# Altium footprint library WSN1.PcbLib: 45 footprints (part 3 of 3)
Each footprint in its own frame and in the unit in brackets; x right, y up, seen from the top. Pads: shape width x height; smd on the part's side, far side on the other; paste and mask are expansions set on the pad; w line width, h text height; cw(c..) or ccw(c..) is an arc to the next point about the centre after c.
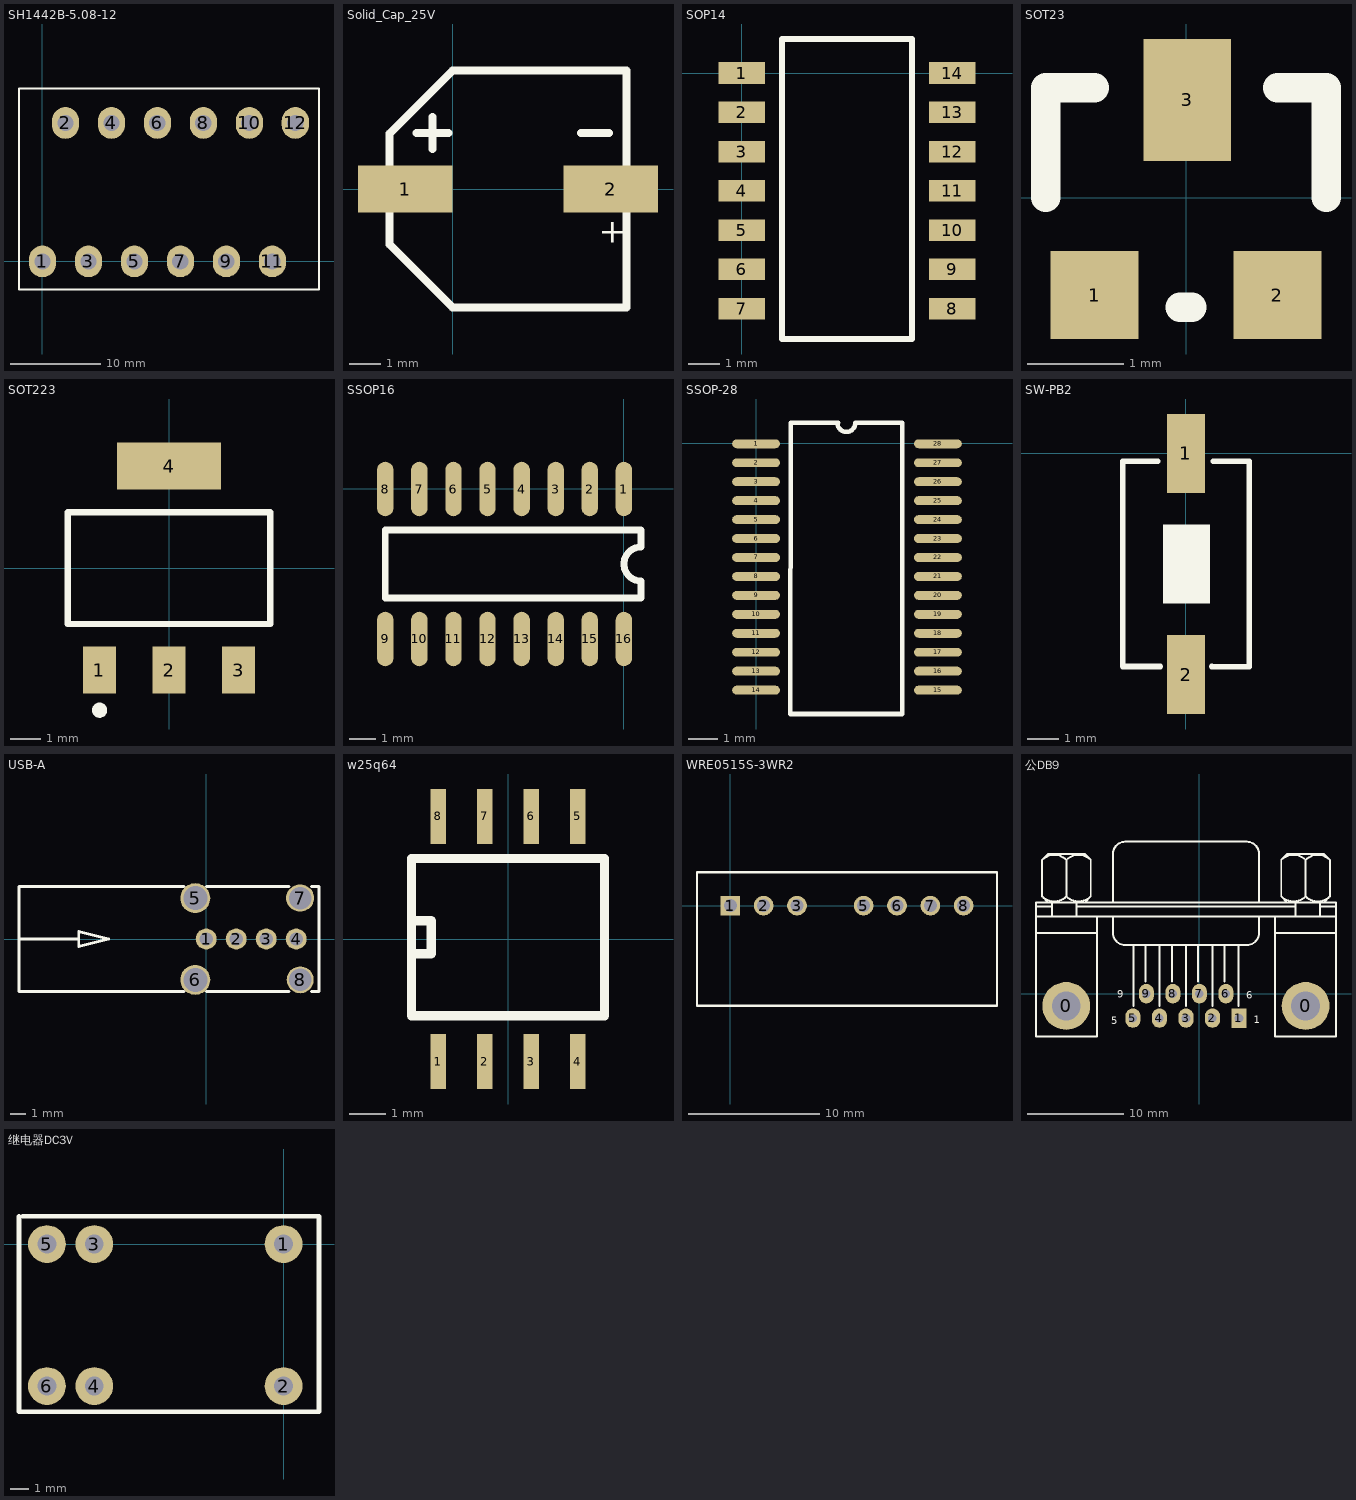
[diagram p2: the footprints below, top view; thin cyan lines are the x and y axes]

## SH1442B-5.08-12 [mm]
pads (12):
  oval 3x3.5 hole 1.8: 1(0,0) 2(2.54,15.3) 3(5.08,0) 4(7.62,15.3) 5(10.16,0) 6(12.7,15.3) 7(15.24,0) 8(17.78,15.3) 9(20.32,0) 10(22.86,15.3) 11(25.4,0) 12(27.94,15.3)
Top Overlay:
  lines w0.203: -2.591,-3.1 30.556,-3.1 30.556,19.1 -2.591,19.1 -2.591,-3.1

## Solid_Cap_25V [mm]
height 2.1
pads (2):
  rect 3x1.5 smd: 1(-1.5,0) 2(5,0)
Top Overlay:
  lines w0.254: -1.143,1.778 -0.127,1.778 ; -0.635,1.27 -0.635,2.286 ; 4.064,1.778 4.953,1.778 ; -2,-1.75 -2,1.75 0,3.75 5.5,3.75 5.5,-3.75 0,-3.75 -2,-1.75
  text "+" at 4.623,-1.702 h0.76

## SOP14 [mm]
height 1.1
pads (14):
  rect 1.5x0.7 smd: 1(0,0) 2(0,-1.27) 3(0,-2.54) 4(0,-3.81) 5(0,-5.08) 6(0,-6.35) 7(0,-7.62) 8(6.8,-7.62) 9(6.8,-6.35) 10(6.8,-5.08) 11(6.8,-3.81) 12(6.8,-2.54) 13(6.8,-1.27) 14(6.8,0)
Top Overlay:
  lines w0.2: 1.3,-8.6 1.3,1.1 5.5,1.1 5.5,-8.6 1.3,-8.6

## SOT23 [mil]
pads (3):
  rect 36x36 smd: 1(-37.5,-40) 2(37.5,-40)
  rect 36x50 smd: 3(0.5,40)
Top Overlay:
  lines w12: -57.5,0 -57.5,45 -37.5,45 ; -2.5,-45 2.5,-45 ; 37.5,45 57.5,45 57.5,0

## SOT223 [mm] "SOT-223/SC-73; 4 Leads; Body 6.7 x 7.3 mm, inc. leads (LxW max)"
height 1.8
pads (4):
  rect 1.1x1.55 smd: 1(-2.3,-3.375) 2(0,-3.375) 3(2.3,-3.375)
  rect 3.45x1.55 smd: 4(0,3.375)
Top Overlay:
  circle w0.25: c-2.3,-4.7 r0.125
  lines w0.2: -3.35,-1.85 -3.35,1.85 3.35,1.85 3.35,-1.85 -3.35,-1.85
3D body: height 1.7, standoff 0, extent -3.25,-3.531 3.25,3.429

## SSOP16 [mil]
height 43.31
pads (16):
  oval 24x80 smd: 1(0.51,-0.19) 2(-49.49,-0.19) 3(-99.49,-0.19) 4(-149.49,-0.19) 5(-199.49,-0.19) 6(-249.49,-0.19) 7(-299.49,-0.19) 8(-349.49,-0.19) 9(-349.49,-220.19) 10(-299.49,-220.19) 11(-249.49,-220.19) 12(-199.49,-220.19) 13(-149.49,-220.19) 14(-99.49,-220.19) 15(-49.49,-220.19) 16(0.51,-220.19)
Top Overlay:
  lines w10: -349.49,-160.19 -349.49,-60.19 25.51,-60.19 25.51,-85.19 ccw(c25.51,-110.19) 25.51,-135.19 25.51,-160.19 -349.49,-160.19

## SSOP-28 [mm]
height 1.1
pads (28):
  oval 1.6x0.3 smd: 1(-0.004,-0.01) 2(-0.004,-0.645) 3(-0.004,-1.28) 4(-0.004,-1.915) 5(-0.004,-2.55) 6(-0.004,-3.185) 7(-0.004,-3.82) 8(-0.004,-4.455) 9(-0.004,-5.09) 10(-0.004,-5.725) 11(-0.004,-6.36) 12(-0.004,-6.995) 13(-0.004,-7.63) 14(-0.004,-8.265) 15(6.092,-8.265) 16(6.092,-7.63) 17(6.092,-6.995) 18(6.092,-6.36) 19(6.092,-5.725) 20(6.092,-5.09) 21(6.092,-4.455) 22(6.092,-3.82) 23(6.092,-3.185) 24(6.092,-2.55) 25(6.092,-1.915) 26(6.092,-1.28) 27(6.092,-0.645) 28(6.092,-0.01)
Top Overlay:
  lines w0.152: 2.723,0.688 ccw(c3.023,0.688) 3.323,0.688 4.898,0.688 4.898,-9.065 1.139,-9.065 1.164,0.688 2.748,0.688

## SW-PB2 [mm]
pads (2):
  rect 1.2x2.5 smd: 1(0.005,-0.013) 2(0.005,-7.013)
Top Overlay:
  region: -0.731,-2.259 -0.731,-4.759 0.769,-4.759 0.769,-2.259
  lines w0.178: -0.885,-0.258 -1.995,-0.263 -1.995,-6.759 -0.809,-6.76 ; 0.816,-6.76 2.005,-6.763 2.005,-0.263 0.867,-0.258

## USB-A [mm]
height 1.1
pads (8):
  round 1.4 hole 0.9: 1(-0.012,0.011) 2(1.988,0.011) 3(3.988,0.011) 4(5.988,0.011)
  round 2 hole 1.6: 5(-0.742,2.731) 6(-0.742,-2.709)
  oval 1.87x1.8 hole 1.5: 7(6.248,2.743)
  round 1.8 hole 1.5: 8(6.258,-2.709)
Top Overlay:
  lines w0.178: -12.492,0.011 -8.512,0.011 ; -1.492,-3.489 -12.492,-3.489 -12.492,3.511 -1.492,3.511 ; 0.008,-3.489 5.508,-3.489 ; 0.008,3.511 5.508,3.511 ; 7.008,-3.489 7.508,-3.489 7.508,3.511 7.008,3.511 ; -8.512,-0.489 -8.512,0.511 -6.512,0.011 -8.512,-0.489

## w25q64 [mm]
pads (8):
  rect 0.42x1.5 smd: 1(-1.905,-3.35) 2(-0.635,-3.35) 3(0.635,-3.35) 4(1.905,-3.35) 5(1.905,3.35) 6(0.635,3.35) 7(-0.635,3.35) 8(-1.905,3.35)
Top Overlay:
  lines w0.254: -2.6,-0.4 -2.1,-0.4 -2.1,0.5 -2.6,0.5 ; -2.64,-2.1 -2.64,2.2 2.64,2.2 2.64,-2.1 -2.64,-2.1

## WRE0515S-3WR2 [mm]
pads (7):
  rect 1.5x1.5 hole 1: 1(0,0)
  round 1.5 hole 1: 2(2.54,0) 3(5.08,0) 5(10.16,0) 6(12.7,0) 7(15.24,0) 8(17.78,0)
Top Overlay:
  lines w0.178: -2.54,-7.62 20.32,-7.62 20.32,2.54 -2.54,2.54 -2.54,-7.62

## 公DB9 [mil]
height 43.31
pads (11):
  round 196.67 hole 118.33: 0(-547.5,-50) 0(436.67,-50)
  rect 62x80 hole 35: 1(162.89,-100)
  oval 62x80 hole 35: 2(53.83,-100) 3(-55,-100) 4(-164.28,-100) 5(-273.33,-100) 6(109.06,0) 7(0,0) 8(-109.06,0) 9(-218.11,0)
Top Overlay:
  lines w8: -671.67,250 -421.67,250 ; -671.67,316.67 561.67,316.67 ; -671.67,358.33 -605,358.33 ; -646.75,399.91 ccw(c-596.67,450) -546.58,399.91 ; -646.75,550.09 cw(c-596.67,500) -546.58,550.09 ; -621.67,375 -646.67,400 -646.67,550 -621.67,575 -471.67,575 -446.67,550 -446.67,400 -471.67,375 ; -605,316.67 -605,375 ; -546.75,399.91 ccw(c-496.67,450) -446.58,399.91 ; -546.75,550.09 cw(c-496.67,500) -446.58,550.09 ; -546.67,400 -546.67,550 ; -505,316.67 -505,375 ; -505,358.33 395,358.33 ; -421.67,316.67 -421.67,-175 -671.67,-175 -671.67,375 561.67,375 561.67,-175 311.67,-175 311.67,316.67 ; -355,316.67 -355,250 ccw(c-305,250) -305,200 195,200 ccw(c195,250) 245,250 245,316.67 ; -355,375 -355,575 cw(c-305,575) -305,625 195,625 cw(c195,575) 245,575 245,375 ; -271.67,-50 -271.67,200 ; -221.67,50 -221.67,200 ; -163.33,-50 -163.33,200 ; -113.33,50 -113.33,200 ; -55,-50 -55,200 ; -5,50 -5,200 ; 53.33,-50 53.33,200 ; 103.33,50 103.33,200 ; 161.67,-50 161.67,200 ; 311.67,250 561.67,250 ; 336.58,399.91 ccw(c386.67,450) 436.75,399.91 ; 336.58,550.09 cw(c386.67,500) 436.75,550.09 ; 361.67,375 336.67,400 336.67,550 361.67,575 511.67,575 536.67,550 536.67,400 511.67,375 ; 395,316.67 395,375 ; 436.58,399.91 ccw(c486.67,450) 536.75,399.91 ; 436.58,550.09 cw(c486.67,500) 536.75,550.09 ; 436.67,400 436.67,550 ; 495,316.67 495,375 ; 495,358.33 561.67,358.33
  text "9" at -338.58,-15.75 h30
  text "5" at -362.2,-125.98 h30
  text "1" at 224.41,-122.05 h30
  text "6" at 192.91,-19.68 h30

## 继电器DC3V [mil]
pads (6):
  round 80 hole 40.37: 1(0,0)
  round 80 hole 40: 2(0,-300) 3(-400,0) 4(-400,-300) 5(-500,0) 6(-500,-300)
Top Overlay:
  lines w10: -559.06,59.06 -559.06,-354.33 74.8,-354.33 74.8,59.06 -551.18,59.06